# EAGLE library part LS7366R (library mylbr)
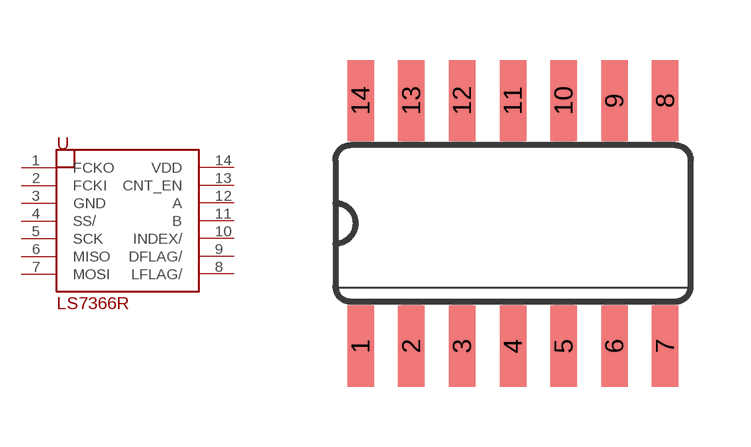
[diagram p2: symbol with the pads of SO14; footprint SO14]

Designator prefix U

## LS7366R  [SO14]
1  FCKO
2  FCKI
3  GND
4  SS/
5  SCK
6  MISO
7  MOSI
8  LFLAG/
9  DFLAG/
10  INDEX/
11  B
12  A
13  CNT_EN
14  VDD

## Footprint SO14 (pad centres in mm)
Small Outline package 150 mil
smd 0.66 x 2.032: 1 -3.81,-3.073; 2 -2.54,-3.073; 3 -1.27,-3.073; 4 0,-3.073; 5 1.27,-3.073; 6 2.54,-3.073; 7 3.81,-3.073; 8 3.81,3.073; 9 2.54,3.073; 10 1.27,3.073; 11 0,3.073; 12 -1.27,3.073; 13 -2.54,3.073; 14 -3.81,3.073